# Altium integrated library FS24-1500.IntLib: 1 symbol
Pins are listed as number, name and electrical type; pins without a type are passive.

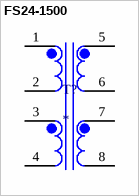
[diagram p0: symbol FS24-1500]

## FS24-1500
designator T?
Transformers 24VCT@1.5A 12V@3A DUAL PRIMARY 8 PIN; MF: Triad Magnetics; MP: FS24-1500; SnapEDA_Link: https://www.snapeda.com/parts/FS24-1500/Triad+Magnetics/view-part/?ref=snap; Package: None; Value: *; Check_prices: https://www.snapeda.com/parts/FS24-1500/Triad+Magnetics/view-part/?ref=eda
footprint TRANSFORMER_FS24-1500
pins: 1, 2, 3, 4, 5, 6, 7, 8